# EAGLE library part SN74LVC16T245DGGR (library nickZhang)
SN74LVC16T245 16-bit Dual-Supply Bus Transceiver With Configurable Level-Shifting / Voltage Translation and Tri-State Outputs Comments: 8bit*2 channel Logic Converter. Datasheet <Datasheet: http://ti.com/lit/ds/symlink/sn74lvc16t245.pdf>
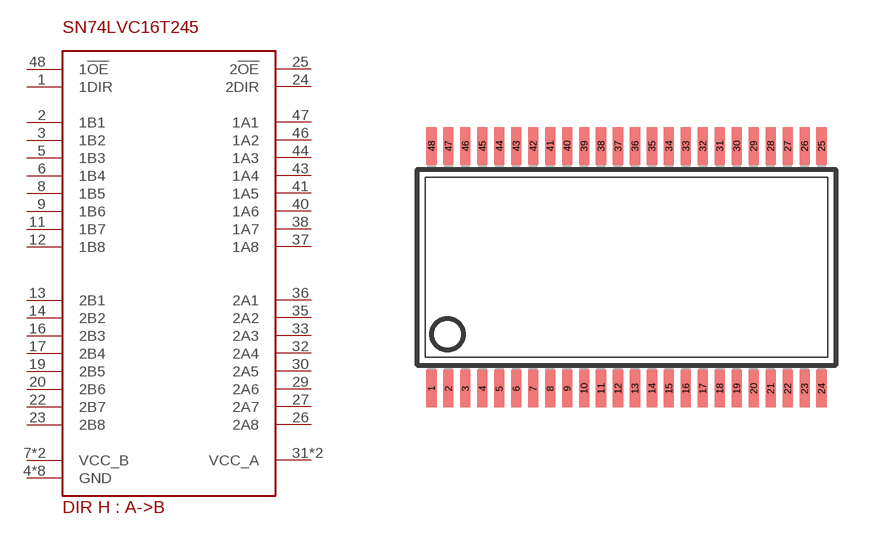
[diagram p0: symbol with the pads of TSSOP48; footprint TSSOP48]

Designator prefix -

## SN74LVC16T245DGGR  [TSSOP48]
1  1DIR
2  1B1
3  1B2
4  GND
5  1B3
6  1B4
7  VCC_B
8  1B5
9  1B6
10  GND
11  1B7
12  1B8
13  2B1
14  2B2
15  GND
16  2B3
17  2B4
18  VCC_B
19  2B5
20  2B6
21  GND
22  2B7
23  2B8
24  2DIR
25  2!OE
26  2A8
27  2A7
28  GND
29  2A6
30  2A5
31  VCC_A
32  2A4
33  2A3
34  GND
35  2A2
36  2A1
37  1A8
38  1A7
39  GND
40  1A6
41  1A5
42  VCC_A
43  1A4
44  1A3
45  GND
46  1A2
47  1A1
48  1!OE

## Footprint TSSOP48 (pad centres in mm)
Thin Shrink Small Outline Plastic 48 Source: http://www.lsicsi.com/pdfs/Drawings/TSSOP_OD.pdf
smd 0.3 x 1.1: 1 -6.385,-3.575; 2 -5.885,-3.575; 3 -5.385,-3.575; 4 -4.885,-3.575; 5 -4.385,-3.575; 6 -3.885,-3.575; 7 -3.385,-3.575; 8 -2.885,-3.575; 9 -2.385,-3.575; 10 -1.885,-3.575; 11 -1.385,-3.575; 12 -0.885,-3.575; 13 -0.385,-3.575; 14 0.115,-3.575; 15 0.615,-3.575; 16 1.115,-3.575; 17 1.615,-3.575; 18 2.115,-3.575; 19 2.615,-3.575; 20 3.115,-3.575; 21 3.615,-3.575; 22 4.115,-3.575; 23 4.615,-3.575; 24 5.115,-3.575; 25 5.115,3.575; 26 4.615,3.575; 27 4.115,3.575; 28 3.615,3.575; 29 3.115,3.575; 30 2.615,3.575; 31 2.115,3.575; 32 1.615,3.575; 33 1.115,3.575; 34 0.615,3.575; 35 0.115,3.575; 36 -0.385,3.575; 37 -0.885,3.575; 38 -1.385,3.575; 39 -1.885,3.575; 40 -2.385,3.575; 41 -2.885,3.575; 42 -3.385,3.575; 43 -3.885,3.575; 44 -4.385,3.575; 45 -4.885,3.575; 46 -5.385,3.575; 47 -5.885,3.575; 48 -6.385,3.575